# Altium footprint library net_ties.PcbLib: 3 footprints
Each footprint in its own frame and in the unit in brackets; x right, y up, seen from the top. Pads: shape width x height; smd on the part's side, far side on the other; paste and mask are expansions set on the pad; w line width, h text height; cw(c..) or ccw(c..) is an arc to the next point about the centre after c.
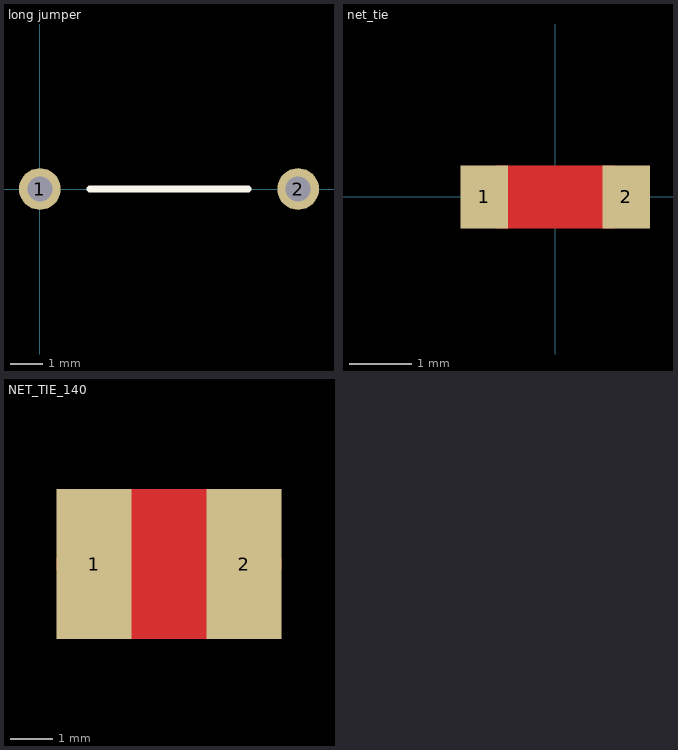
[diagram p0: the footprints below, top view; thin cyan lines are the x and y axes]

## long jumper [mil]
pads (2):
  round 50 hole 30: 1(0,0) 2(310,0)
Top Overlay:
  lines w8: 60,0 250,0

## net_tie [mil]
pads (2):
  rect 30x40 smd paste-100 mask-100: 1(-45,0) 2(45,0)
Top Layer:
  region: -125,30
  lines w40: -35,0 35,0

## NET_TIE_140 [mil]
pads (2):
  rect 70x140 smd paste-100 mask-100: 1(-11575,5495) 2(-11435,5495)
Top Layer:
  lines w140: -11540,5495 -11470,5495